# EAGLE library part ADAFRUIT1552 (library teelsys-0.2)
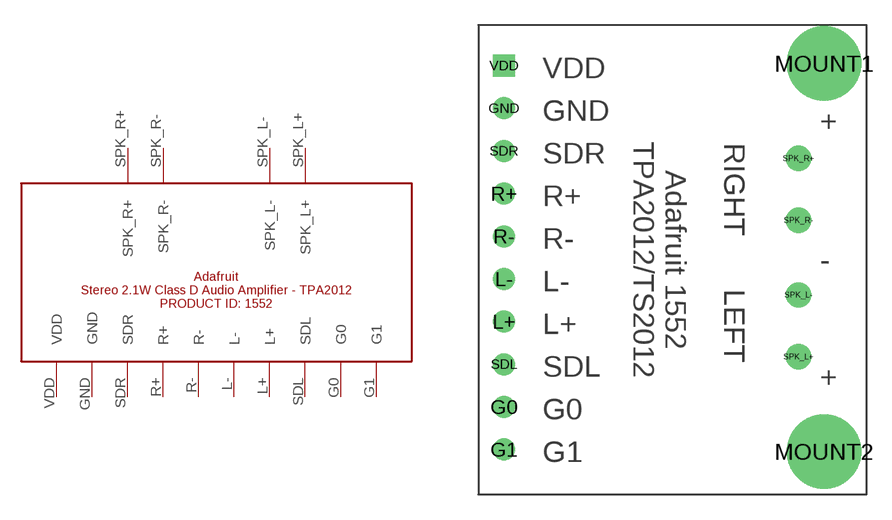
[diagram p14: symbol with the pads of ADAFRUIT1552; footprint ADAFRUIT1552]

Designator prefix -

## ADAFRUIT1552BREAKOUT  [ADAFRUIT1552]
G0  G0
G1  G1
GND  GND
L+  L+
L-  L-
R+  R+
R-  R-
SDL  SDL
SDR  SDR
SPK_L+  SPK_L+
SPK_L-  SPK_L-
SPK_R+  SPK_R+
SPK_R-  SPK_R-
VDD  VDD

## Footprint ADAFRUIT1552 (pad centres in mm)
drill 0.8: G0 1.524,5.207; G1 1.524,2.667; GND 1.524,22.987; L+ 1.524,10.287; L- 1.524,12.827; R+ 1.524,17.907; R- 1.524,15.367; SDL 1.524,7.747; SDR 1.524,20.447
drill 2.8 pad 4.445: MOUNT1 20.574,25.654; MOUNT2 20.574,2.54
drill 1: SPK_L+ 19.05,8.191; SPK_L- 19.05,11.874; SPK_R+ 19.05,20.003; SPK_R- 19.05,16.32
drill 0.8 square: VDD 1.524,25.527